# Altium footprint library QFN40P200X200X100-13T70X70N.PcbLib: 1 footprints
Each footprint in its own frame and in the unit in brackets; x right, y up, seen from the top. Pads: shape width x height; smd on the part's side, far side on the other; paste and mask are expansions set on the pad; w line width, h text height; cw(c..) or ccw(c..) is an arc to the next point about the centre after c.
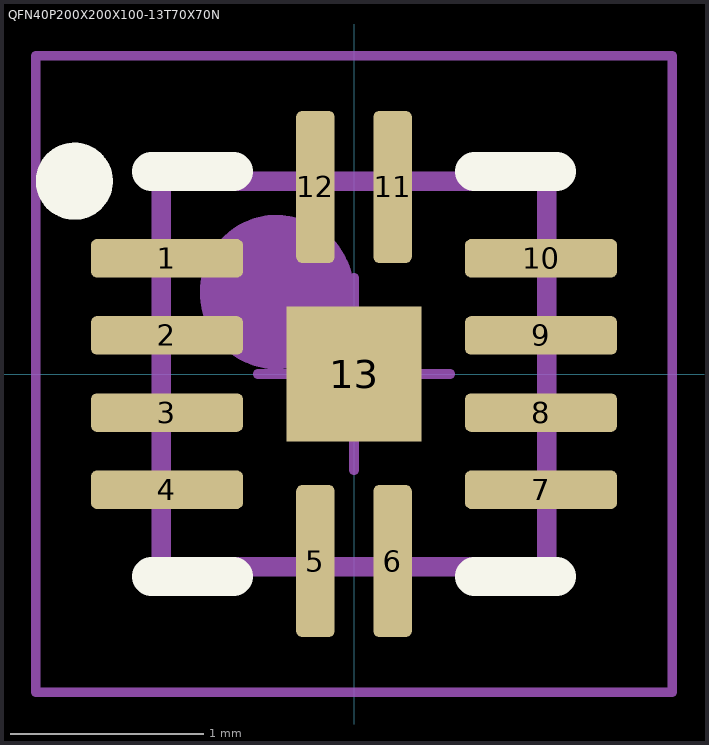
[diagram p0: the footprint, top view; thin cyan lines are the x and y axes]

## QFN40P200X200X100-13T70X70N [mm] "Quad Flat No-Lead (QFN with Tab), 0.40 mm pitch; square, 4 pin X 2 pin, 2.00 mm L X 2.00 mm W X 1.00 mm H body"
height 1
pads (13):
  rrect33% 0.79x0.2 smd: 1(-0.97,0.6) 2(-0.97,0.2) 3(-0.97,-0.2) 4(-0.97,-0.6) 7(0.97,-0.6) 8(0.97,-0.2) 9(0.97,0.2) 10(0.97,0.6)
  rrect33% 0.2x0.79 smd: 5(-0.2,-0.97) 6(0.2,-0.97) 11(0.2,0.97) 12(-0.2,0.97)
  rect 0.7x0.7 smd paste-0.102: 13(0,0)
Top Overlay:
  circle w0.2: c-1.45,1 r0.1
  lines w0.2: -1.05,-1.05 -0.625,-1.05 ; -1.05,1.05 -0.625,1.05 ; 0.625,-1.05 1.05,-1.05 ; 0.625,1.05 1.05,1.05
Top Assembly:
  circle w0.4: c-0.4,0.425 r0.2
  lines w0.1: -1,-1 -1,1 1,1 1,-1 -1,-1
Top Courtyard:
  lines w0.05: -1.65,-1.65 -1.65,1.65 1.65,1.65 1.65,-1.65 -1.65,-1.65
Top Designator:
  text ".Designator" at -0.747,-0.7 h1
Top Component Center:
  lines w0.05: -0.5,0 0.5,0 ; 0,-0.5 0,0.5
3D body "QFN40P200X200X100-13T70X70.STEP": height 1, standoff 0, extent -1.05,-1.05 1.05,1.05